# Altium footprint library OptoElectronics.PcbLib: 2 footprints
Each footprint in its own frame and in the unit in brackets; x right, y up, seen from the top. Pads: shape width x height; smd on the part's side, far side on the other; paste and mask are expansions set on the pad; w line width, h text height; cw(c..) or ccw(c..) is an arc to the next point about the centre after c.
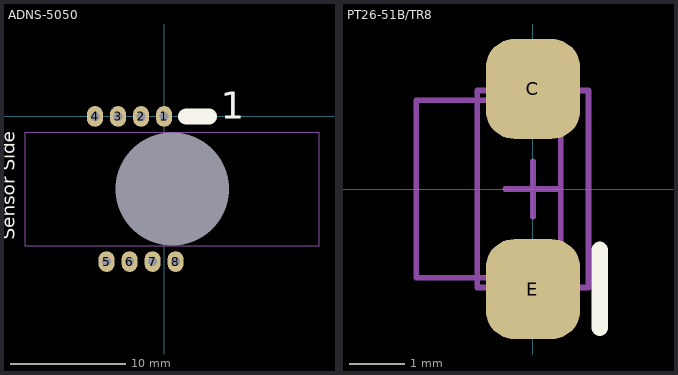
[diagram p0: the footprints below, top view; thin cyan lines are the x and y axes]

## ADNS-5050 [mm]
pads (9):
  oval 1.4x1.8 hole 0.8: 1(0,0) 2(-2,0) 3(-4,0) 4(-6,0) 5(-5,-12.6) 6(-3,-12.6) 7(-1,-12.6) 8(1,-12.6)
  rect 0x0 hole 9.85 square unplated: ""(0.7,-6.3)
Top Overlay:
  lines w1.4: 1.925,0 3.9,0
  text "Sensor Side" at -12.6,-10.7 h2
  text "1" at 4.9,-1 h4
Bottom Overlay:
  text "Optic Side" at -13.1,-2.4 h2
Board Outline:
  lines w0.1: -12.05,-11.225 -12.05,-1.375 13.45,-1.375 13.45,-11.225 -12.05,-11.225
3D body "ADNS-5050.STEP": height 5.45, standoff -6.4, extent -15,-14.3 15,1.7

## PT26-51B/TR8 [mm]
height 0.8
pads (2):
  rrect60% 1.7x1.8 smd paste-0.08: C(0,1.802) E(0,-1.802)
Top Overlay:
  lines w0.3: 1.2,-2.5 1.2,-1.1
Mechanical 13:
  lines w0.1: -2.1,-1.6 -2.1,1.6 0.5,1.6 0.5,-1.6 -2.1,-1.6
Mechanical 15:
  lines w0.1: -0.5,0 0.5,0 ; 0,-0.5 0,0.5 ; -1,-1.775 -1,1.775 1,1.775 1,-1.775 -1,-1.775
3D body "PT26-51B-TR8.stp": height 1.6, standoff 0, extent -2.05,-1.6 0.45,1.6